# Altium footprint library 变压器.PcbLib: 10 footprints
Each footprint in its own frame and in the unit in brackets; x right, y up, seen from the top. Pads: shape width x height; smd on the part's side, far side on the other; paste and mask are expansions set on the pad; w line width, h text height; cw(c..) or ccw(c..) is an arc to the next point about the centre after c.
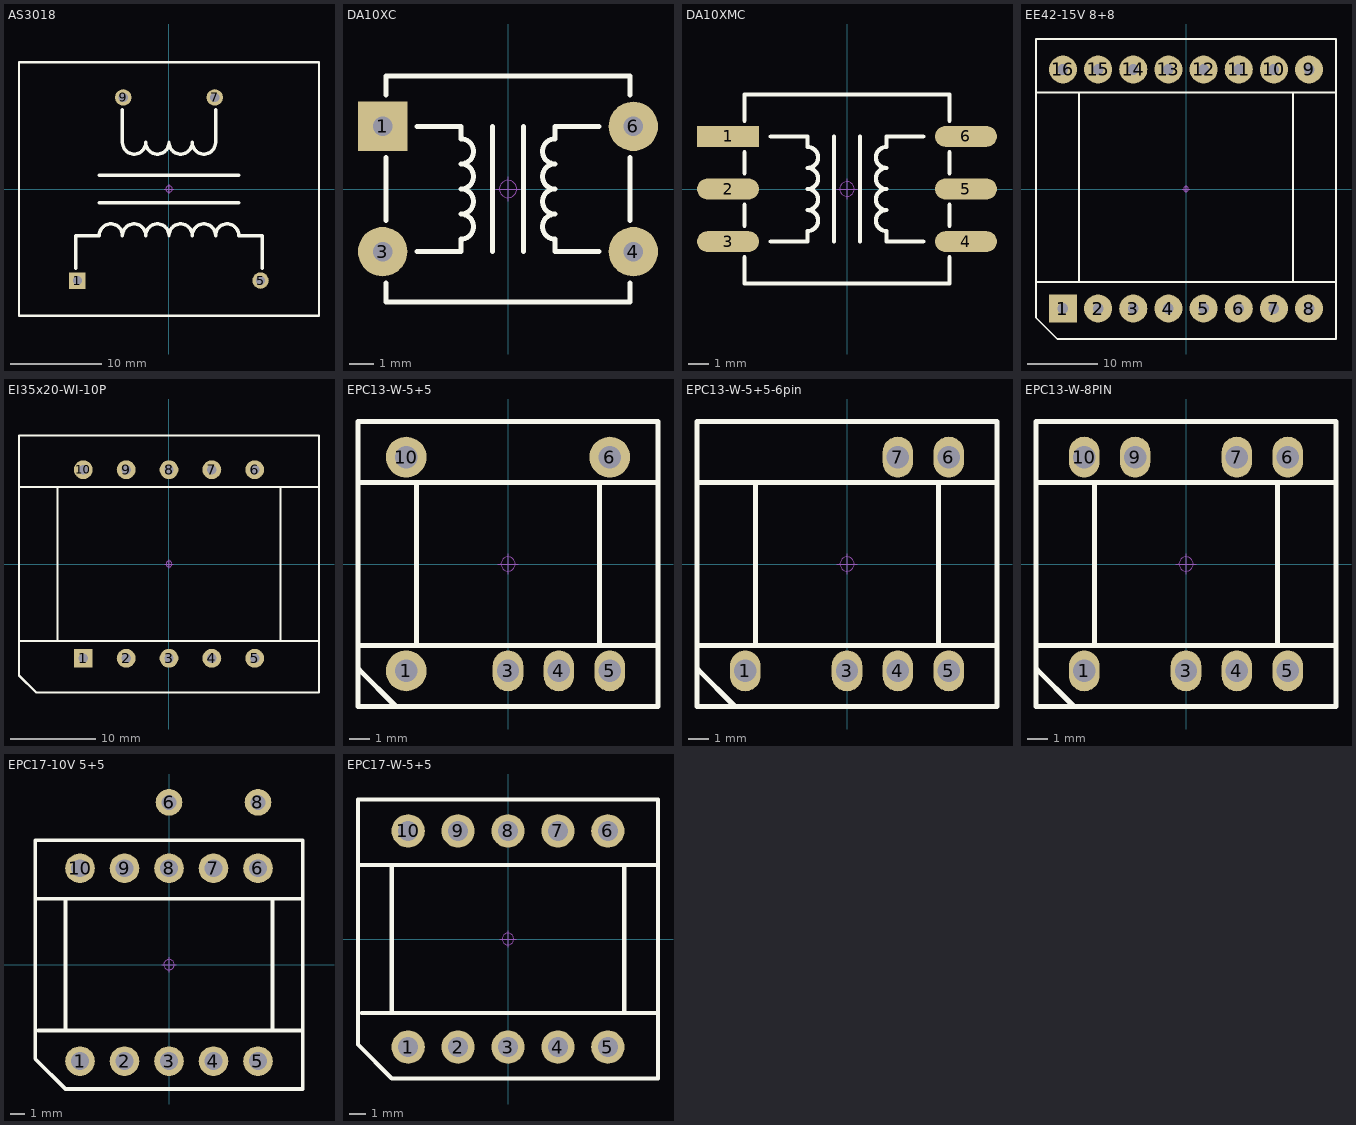
[diagram p0: the footprints below, top view; thin cyan lines are the x and y axes]

## AS3018 [mm] "32mm*27.5mm*29mm(长*宽*高)"
pads (4):
  rect 1.8x1.8 hole 1: 1(-10,-10)
  round 1.8 hole 1: 5(10,-10) 7(5,10) 9(-5,10)
Top Overlay:
  lines w0.254: -16.383,-13.843 16.383,-13.843 16.383,13.843 -16.383,13.843 -16.383,-13.843
  lines w0.381: -10.16,-8.636 -10.16,-5.08 -7.62,-5.08 cw(c-6.35,-5.08) -5.08,-5.08 cw(c-3.81,-5.08) -2.54,-5.08 cw(c-1.27,-5.08) 0,-5.08 cw(c1.27,-5.08) 2.54,-5.08 cw(c3.81,-5.08) 5.08,-5.08 cw(c6.35,-5.08) 7.62,-5.08 10.16,-5.08 10.16,-8.636 ; -7.62,-1.524 7.62,-1.524 ; -7.62,1.524 7.62,1.524 ; -5.08,8.636 -5.08,5.08 ccw(c-3.81,5.08) -2.54,5.08 ccw(c-1.27,5.08) 0,5.08 ccw(c1.27,5.08) 2.54,5.08 ccw(c3.81,5.08) 5.08,5.08 5.08,8.636
Mechanical 15:
  circle w0.05: c0,0 r0.35
  lines w0.05: -0.5,0 0.5,0 ; 0,-0.5 0,0.5
3D body: height 29.1, standoff 0.1, extent -16.15,-13.65 16.15,13.65
3D body: height 3.6, standoff -1, extent 9.6,-10.4 10.4,-9.6
3D body: height 3.6, standoff -1, extent -10.4,-10.4 -9.6,-9.6
3D body: height 3.6, standoff -1, extent -5.4,9.6 -4.6,10.4
3D body: height 3.6, standoff -1, extent 4.6,9.6 5.4,10.4

## DA10XC [mm] "9mm*9.52mm*6.35mm(长*宽*高)"
pads (4):
  rect 2x2 hole 0.8 unplated: 1(-5.08,2.54)
  round 2 hole 0.8 unplated: 3(-5.08,-2.54) 4(5.08,-2.54) 6(5.08,2.54)
Top Overlay:
  lines w0.203: -4.953,-3.81 -4.953,-4.572 4.953,-4.572 4.953,-3.81 ; -4.953,-1.27 -4.953,1.27 ; -4.953,3.81 -4.953,4.572 4.953,4.572 4.953,3.81 ; -3.683,-2.54 -1.905,-2.54 -1.905,-2.032 ccw(c-1.905,-1.524) -1.905,-1.016 ccw(c-1.905,-0.508) -1.905,0 ccw(c-1.905,0.508) -1.905,1.016 ccw(c-1.905,1.524) -1.905,2.032 -1.905,2.54 -3.683,2.54 ; -0.635,-2.54 -0.635,2.54 ; 0.635,-2.54 0.635,2.54 ; 3.683,-2.54 1.905,-2.54 1.905,-2.032 cw(c1.905,-1.524) 1.905,-1.016 cw(c1.905,-0.508) 1.905,0 cw(c1.905,0.508) 1.905,1.016 cw(c1.905,1.524) 1.905,2.032 1.905,2.54 3.683,2.54 ; 4.953,-1.27 4.953,1.27
Mechanical 15:
  circle w0.05: c0,0 r0.35
  lines w0.05: -0.5,0 0.5,0 ; 0,-0.5 0,0.5
3D body: height 6.4, standoff -3.45, extent -5.205,-4.5 5.205,4.5

## DA10XMC [mm] "9mm*9.52mm*6.35mm(长*宽*高)"
pads (6):
  rect 3x1 smd: 1(-5.75,2.54)
  oval 3x1 smd: 2(-5.75,0) 3(-5.75,-2.54) 4(5.75,-2.54) 5(5.75,0) 6(5.75,2.54)
Top Overlay:
  lines w0.203: -4.953,-3.302 -4.953,-4.572 4.953,-4.572 4.953,-3.302 ; -4.953,-1.778 -4.953,-0.762 ; -4.953,0.762 -4.953,1.778 ; -4.953,3.302 -4.953,4.572 4.953,4.572 4.953,3.302 ; -3.683,-2.54 -1.905,-2.54 -1.905,-2.032 ccw(c-1.905,-1.524) -1.905,-1.016 ccw(c-1.905,-0.508) -1.905,0 ccw(c-1.905,0.508) -1.905,1.016 ccw(c-1.905,1.524) -1.905,2.032 -1.905,2.54 -3.683,2.54 ; -0.635,-2.54 -0.635,2.54 ; 0.635,-2.54 0.635,2.54 ; 3.683,-2.54 1.905,-2.54 1.905,-2.032 cw(c1.905,-1.524) 1.905,-1.016 cw(c1.905,-0.508) 1.905,0 cw(c1.905,0.508) 1.905,1.016 cw(c1.905,1.524) 1.905,2.032 1.905,2.54 3.683,2.54 ; 4.953,-1.778 4.953,-0.762 ; 4.953,0.762 4.953,1.778
Mechanical 15:
  circle w0.05: c0,0 r0.35
  lines w0.05: -0.5,0 0.5,0 ; 0,-0.5 0,0.5
3D body: height 6.45, standoff -0.03, extent -6.35,-4.5 6.35,4.5

## EE42-15V 8+8 [mm] "磁芯 42mm  宽42mm  高32mm"
pads (16):
  rect 4x4 hole 1.5: 1(-17.5,-17)
  round 4 hole 1.5: 2(-12.5,-17) 3(-7.5,-17) 4(-2.5,-17) 5(2.5,-17) 6(7.5,-17) 7(12.5,-17) 8(17.5,-17) 9(17.5,17) 10(12.5,17) 11(7.5,17) 12(2.5,17) 13(-2.5,17) 14(-7.5,17) 15(-12.5,17) 16(-17.5,17)
Top Overlay:
  lines w0.254: -21.336,-13.208 21.336,-13.208 ; -21.336,13.716 21.336,13.716 ; -15.24,-13.208 -15.24,13.716 ; 15.24,-13.208 15.24,13.716 ; -21.336,-18.288 -18.288,-21.336 21.336,-21.336 21.336,21.336 -21.336,21.336 -21.336,-18.288
Mechanical 15:
  circle w0.05: c0,0 r0.35
  lines w0.05: -0.5,0 0.5,0 ; 0,-0.5 0,0.5
3D body: height 31.55, standoff -3.15, extent -21.1,-21.1 21.1,21.1

## EI35x20-WI-10P [mm] "长：35mm，宽：30mm，高：33mm"
pads (10):
  rect 2.2x2.2 hole 1.1: 1(-10,-11)
  round 2.2 hole 1.1: 2(-5,-11) 3(0,-11) 4(5,-11) 5(10,-11) 6(10,11) 7(5,11) 8(0,11) 9(-5,11) 10(-10,11)
Top Overlay:
  lines w0.254: -17.5,-9 17.5,-9 ; -17.5,9 17.5,9 ; -13,-9 -13,9 ; 13,-9 13,9 ; -17.5,-13 -17.5,15 17.5,15 17.5,-15 -15.5,-15 -17.5,-13
Mechanical 15:
  circle w0.05: c0,0 r0.35
  lines w0.05: -0.5,0 0.5,0 ; 0,-0.5 0,0.5
3D body: height 33.05, standoff -3.45, extent -17.5,-15 17.5,15

## EPC13-W-5+5 [mm] "磁芯13mm，高6mm，脚距2.5mm，排距10.5mm"
pads (6):
  round 2 hole 1.1: 1(-5,-5.25) 6(5,5.25) 10(-5,5.25)
  oval 1.5x2 hole 1.1: 3(0,-5.25) 4(2.5,-5.25) 5(5,-5.25)
Top Overlay:
  lines w0.254: -7.366,-4 7.366,-4 ; -7.366,4 7.366,4 ; -7.33,-5.171 -5.5,-7 ; -4.5,-4 -4.5,4 ; 4.5,-4 4.5,4 ; -7.366,-7 7.366,-7 7.366,7 -7.366,7 -7.366,-7
Mechanical 15:
  circle w0.05: c0,0 r0.35
  lines w0.05: -0.5,0 0.5,0 ; 0,-0.5 0,0.5
3D body: height 1.5, standoff -2.7, extent 4.601,-5.65 5.401,-4.85
3D body: height 1.5, standoff -2.7, extent 2.101,-5.65 2.901,-4.85
3D body: height 1.5, standoff -2.7, extent -0.4,-5.65 0.4,-4.85
3D body: height 1.5, standoff -2.7, extent -5.399,-5.65 -4.599,-4.85
3D body: height 1.5, standoff -2.7, extent -5.4,4.85 -4.6,5.65
3D body: height 1.5, standoff -2.7, extent 4.601,4.85 5.401,5.65
3D body: height 7.53, standoff 0.03, extent -7.25,-6.85 7.25,6.85

## EPC13-W-5+5-6pin [mm] "磁芯13mm，高6mm，脚距2.5mm，排距10.5mm"
pads (6):
  oval 1.5x2 hole 1.1: 1(-5,-5.25) 3(0,-5.25) 4(2.5,-5.25) 5(5,-5.25) 6(5,5.25) 7(2.5,5.25)
Top Overlay:
  lines w0.254: -7.366,-4 7.366,-4 ; -7.366,4 7.366,4 ; -7.33,-5.171 -5.5,-7 ; -4.5,-4 -4.5,4 ; 4.5,-4 4.5,4 ; -7.366,-7 -7.366,7 7.366,7 7.366,-7 -7.366,-7
Mechanical 15:
  circle w0.05: c0,0 r0.35
  lines w0.05: -0.5,0 0.5,0 ; 0,-0.5 0,0.5
3D body: height 1.5, standoff -2.7, extent 4.6,4.85 5.4,5.65
3D body: height 1.5, standoff -2.7, extent 2.1,4.85 2.9,5.65
3D body: height 1.5, standoff -2.7, extent -5.4,-5.65 -4.6,-4.85
3D body: height 1.5, standoff -2.7, extent -0.4,-5.65 0.4,-4.85
3D body: height 1.5, standoff -2.7, extent 2.1,-5.65 2.9,-4.85
3D body: height 1.5, standoff -2.7, extent 4.6,-5.65 5.4,-4.85
3D body: height 7.53, standoff 0.03, extent -7.25,-6.85 7.25,6.85

## EPC13-W-8PIN [mm] "磁芯13mm，高6mm，脚距2.5mm，排距10.5mm"
pads (8):
  oval 1.5x2 hole 1.1: 1(-5,-5.25) 3(0,-5.25) 4(2.5,-5.25) 5(5,-5.25) 6(5,5.25) 7(2.5,5.25) 9(-2.5,5.25) 10(-5,5.25)
Top Overlay:
  lines w0.254: -7.366,-4 7.366,-4 ; -7.366,4 7.366,4 ; -7.33,-5.171 -5.5,-7 ; -4.5,-4 -4.5,4 ; 4.5,-4 4.5,4 ; -7.366,-7 7.366,-7 7.366,7 -7.366,7 -7.366,-7
Mechanical 15:
  circle w0.05: c0,0 r0.35
  lines w0.05: -0.5,0 0.5,0 ; 0,-0.5 0,0.5
3D body: height 1.5, standoff -2.7, extent -2.9,4.85 -2.1,5.65
3D body: height 1.5, standoff -2.7, extent 2.1,4.85 2.9,5.65
3D body: height 1.5, standoff -2.7, extent 4.6,-5.65 5.4,-4.85
3D body: height 1.5, standoff -2.7, extent 2.1,-5.65 2.9,-4.85
3D body: height 1.5, standoff -2.7, extent -0.4,-5.65 0.4,-4.85
3D body: height 1.5, standoff -2.7, extent -5.4,-5.65 -4.6,-4.85
3D body: height 1.5, standoff -2.7, extent -5.4,4.85 -4.6,5.65
3D body: height 1.5, standoff -2.7, extent 4.6,4.85 5.4,5.65
3D body: height 7.53, standoff 0.03, extent -7.251,-6.85 7.249,6.85

## EPC17-10V 5+5 [mm] "磁芯17mm，高10mm，脚距3mm，"
pads (12):
  round 2 hole 1.2: 1(-6,-6.5) 2(-3,-6.5) 3(0,-6.5) 4(3,-6.5) 5(6,-6.5) 6(6,6.5) 7(3,6.5) 8(0,6.5) 9(-3,6.5) 10(-6,6.5)
  round 1.8 hole 1: 6(0,10.945) 8(6,10.945)
Top Overlay:
  lines w0.254: -9.017,4.445 9.017,4.445 ; -8.794,-4.445 9.017,-4.445 ; -6.985,-4.445 -6.985,4.445 ; 6.985,-4.445 6.985,4.445 ; -9.017,-6.35 -9.017,8.382 9.017,8.382 9.017,-8.382 -6.985,-8.382 -9.017,-6.35
Mechanical 15:
  circle w0.05: c0,0 r0.35
  lines w0.05: -0.5,0 0.5,0 ; 0,-0.5 0,0.5
3D body: height 9.75, standoff -3.15, extent -8.75,-8.1 8.75,8.1

## EPC17-W-5+5 [mm] "磁芯17mm，高10mm，脚距3mm，"
pads (10):
  round 2 hole 1.2: 1(-6,-6.5) 2(-3,-6.5) 3(0,-6.5) 4(3,-6.5) 5(6,-6.5) 6(6,6.5) 7(3,6.5) 8(0,6.5) 9(-3,6.5) 10(-6,6.5)
Top Overlay:
  lines w0.254: -9.017,4.445 9.017,4.445 ; -8.794,-4.445 9.017,-4.445 ; -6.985,-4.445 -6.985,4.445 ; 6.985,-4.445 6.985,4.445 ; -9.017,-6.35 -9.017,8.382 9.017,8.382 9.017,-8.382 -6.985,-8.382 -9.017,-6.35
Mechanical 15:
  circle w0.05: c0,0 r0.35
  lines w0.05: -0.5,0 0.5,0 ; 0,-0.5 0,0.5
3D body: height 9.75, standoff -3.15, extent -8.75,-8.1 8.75,8.1